# EAGLE library part HC_05 (library Wearables_Project1)
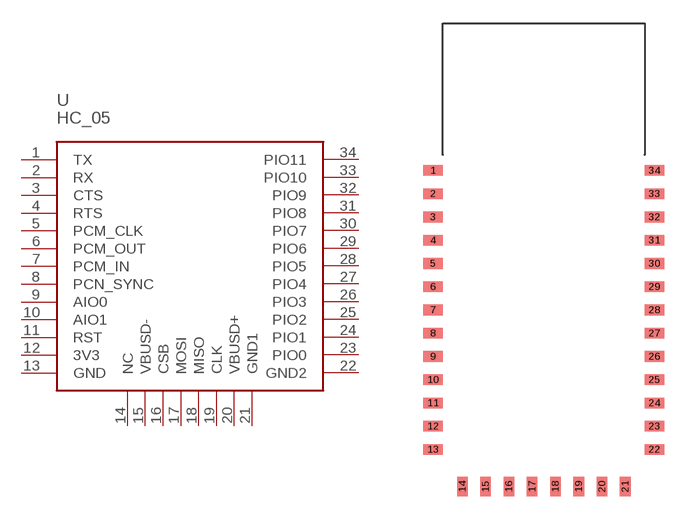
[diagram p1: symbol with the pads of BLUETOOTH_SMD; footprint BLUETOOTH_SMD]

Designator prefix U

## HC_05  [BLUETOOTH_SMD]
1  TX
2  RX
3  CTS
4  RTS
5  PCM_CLK
6  PCM_OUT
7  PCM_IN
8  PCN_SYNC
9  AIO0
10  AIO1
11  RST
12  3V3
13  GND
14  NC
15  VBUSD-
16  CSB
17  MOSI
18  MISO
19  CLK
20  VBUSD+
21  GND1
22  GND2
23  PIO0
24  PIO1
25  PIO2
26  PIO3
27  PIO4
28  PIO5
29  PIO6
30  PIO7
31  PIO8
32  PIO9
33  PIO10
34  PIO11

## Footprint BLUETOOTH_SMD (pad centres in mm)
smd 1.27 x 0.686: 1 -0.635,0; 2 -0.635,-1.5; 3 -0.635,-3; 4 -0.635,-4.5; 5 -0.635,-6; 6 -0.635,-7.5; 7 -0.635,-9; 8 -0.635,-10.5; 9 -0.635,-12; 10 -0.635,-13.5; 11 -0.635,-15; 12 -0.635,-16.5; 13 -0.635,-18; 22 13.635,-18; 23 13.635,-16.5; 24 13.635,-15; 25 13.635,-13.5; 26 13.635,-12; 27 13.635,-10.5; 28 13.635,-9; 29 13.635,-7.5; 30 13.635,-6; 31 13.635,-4.5; 32 13.635,-3; 33 13.635,-1.5; 34 13.635,0
smd 0.686 x 1.27: 14 1.25,-20.385; 15 2.75,-20.385; 16 4.25,-20.385; 17 5.75,-20.385; 18 7.25,-20.385; 19 8.75,-20.385; 20 10.25,-20.385; 21 11.75,-20.385